# EAGLE library part 16F630 (library pic16f6xx)
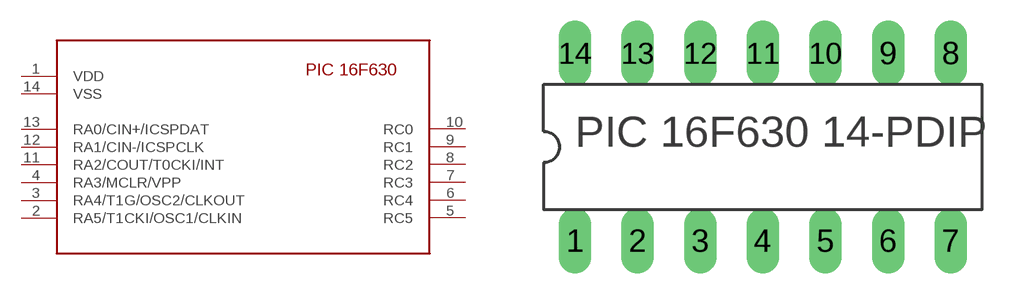
[diagram p1: symbol with the pads of PIC16F630-14-LEAD-PDIP; footprint PIC16F630-14-LEAD-PDIP]

Designator prefix -

## 16F630  [PIC16F630-14-LEAD-PDIP]
1  VDD  in
2  RA5/T1CKI/OSC1/CLKIN
3  RA4/T1G/OSC2/CLKOUT
4  RA3/MCLR/VPP
5  RC5
6  RC4
7  RC3
8  RC2
9  RC1
10  RC0
11  RA2/COUT/T0CKI/INT
12  RA1/CIN-/ICSPCLK
13  RA0/CIN+/ICSPDAT
14  VSS  in

## Footprint PIC16F630-14-LEAD-PDIP (pad centres in mm)
drill 0.813 long: 1 -7.62,-3.81; 2 -5.08,-3.81; 3 -2.54,-3.81; 4 0,-3.81; 5 2.54,-3.81; 6 5.08,-3.81; 7 7.62,-3.81; 8 7.62,3.81; 9 5.08,3.81; 10 2.54,3.81; 11 0,3.81; 12 -2.54,3.81; 13 -5.08,3.81; 14 -7.62,3.81